# Altium schematic symbol library U_MKL05Z32VFM4.SchLib: 1 symbol
Pins are listed as number, name and electrical type; pins without a type are passive.

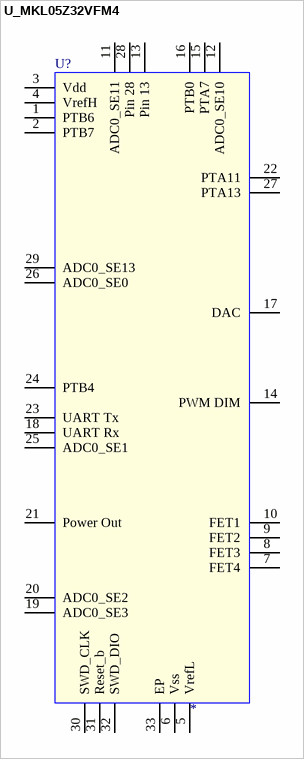
[diagram p0: symbol U_MKL05Z32VFM4]

## U_MKL05Z32VFM4
designator U?
pins: 1 PTB6, 2 PTB7, 3 Vdd, 4 VrefH, 5 VrefL, 6 Vss, 7 FET4, 8 FET3, 9 FET2, 10 FET1, 11 ADC0_SE11, 12 ADC0_SE10, 13 Pin 13, 14 PWM DIM, 15 PTA7, 16 PTB0, 17 DAC, 18 UART Rx, 19 ADC0_SE3, 20 ADC0_SE2, 21 Power Out, 22 PTA11, 23 UART Tx, 24 PTB4, 25 ADC0_SE1, 26 ADC0_SE0, 27 PTA13, 28 Pin 28, 29 ADC0_SE13, 30 SWD_CLK, 31 Reset_b "Reset", 32 SWD_DIO, 33 EP "Exposed Pad"
2 alternate drawings of the same symbol